# Altium integrated library Atmel AT89S52.IntLib: 16 symbols
Pins are listed as number, name and electrical type; pins without a type are passive.

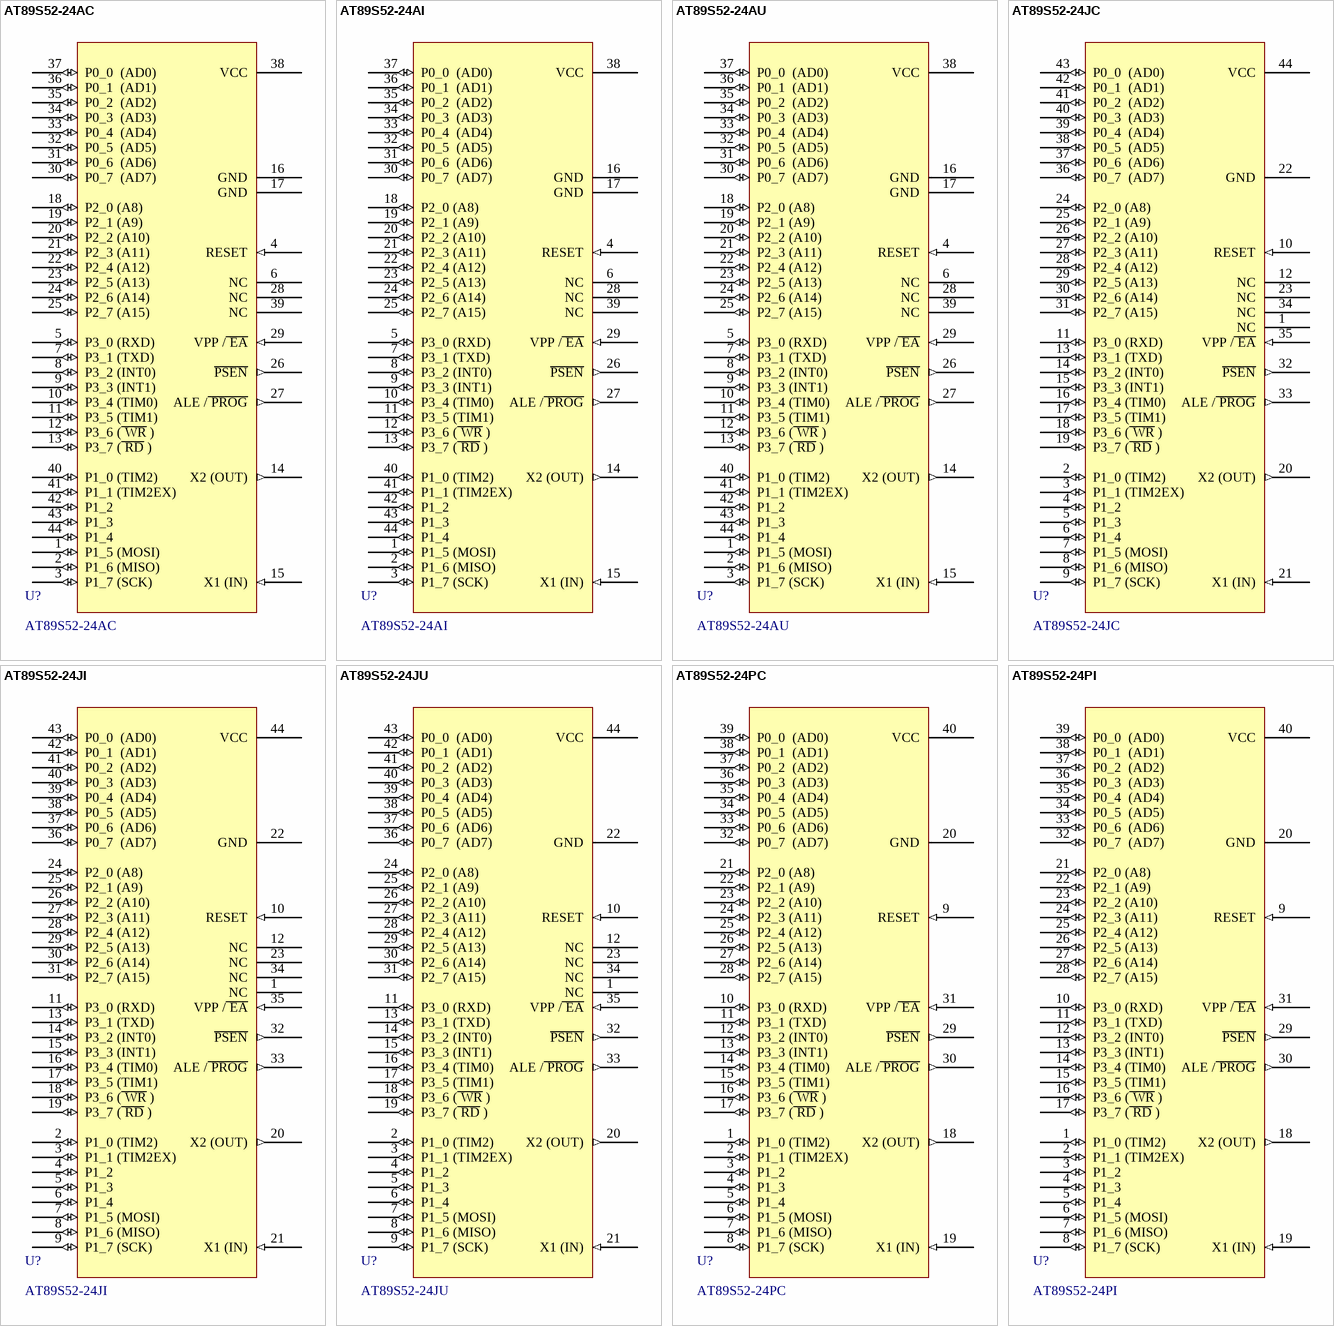
[diagram p0: symbols AT89S52-24AC to AT89S52-24PI]

## AT89S52-24AC
designator U?
Atmel 8 Bit Micro 4.0-5.5V 24MHz 0-70 Deg C 44TQFP (44A) Package; GREEN OPTION: NO; Vendor: ATMEL; PartNr: AT89S52-24AC; Package: 44A 44-lead, Thin Plastic Gull Wing Quad Flatpack (TQFP)
footprint Atmel_44A (44-lead, Thin Plastic Gull Wing Quad Flatpack (TQFP))
pins: 1 P1_5 (MOSI) (io) "PORT 1 BIT 5 OR MOSI", 2 P1_6 (MISO) (io) "PORT 1 BIT 6 OR MISO", 3 P1_7 (SCK) (io) "PORT 1 BIT 7 OR SCK", 4 RESET (in) "RESET IN", 5 P3_0 (RXD) (io) "PORT 3 BIT 0 OR RXD", 6 NC "NOT CONNECTED", 7 P3_1 (TXD) (io) "PORT 3 BIT 1 OR TXD", 8 P3_2 (INT0) (io) "PORT 3 BIT 2 OR INT0", 9 P3_3 (INT1) (io) "PORT 3 BIT 3 OR INT1", 10 P3_4 (TIM0) (io) "PORT 3 BIT 4 OR TIM0", 11 P3_5 (TIM1) (io) "PORT 3 BIT 5 OR TIM1", 12 P3_6 (~{ WR} ) (io) "PORT 3 BIT 6 OR /WR", 13 P3_7 (~{ RD} ) (io) "PORT 3 BIT 7 OR /RD", 14 X2 (OUT) (out) "CLCOK OSC OUT", 15 X1 (IN) (in) "XTAL 1 OR CLK INPUT", 16 GND (power) "GND POWER", 17 GND (power) "GND POWER", 18 P2_0 (A8) (io) "PORT 2 BIT 0 OR A8", 19 P2_1 (A9) (io) "PORT 2 BIT 1 OR A9", 20 P2_2 (A10) (io) "PORT 2 BIT 2 OR A10", 21 P2_3 (A11) (io) "PORT 2 BIT 3 OR A11", 22 P2_4 (A12) (io) "PORT 2 BIT 4 OR A12", 23 P2_5 (A13) (io) "PORT 2 BIT 5 OR A13", 24 P2_6 (A14) (io) "PORT 2 BIT 6 OR A14", 25 P2_7 (A15) (io) "PORT 2 BIT 7 OR A15", 26 ~{PSEN} (out) "PROG STORE ENABLE", 27 ALE /~{ PROG} (out) "ALE / PROG PULSE IN", 28 NC "NOT CONNECTED", 29 VPP /~{ EA} (in) "EX ACCESS ENABLE OR VPP IN", 30 P0_7  (AD7) (io) "PORT 0 BIT 0  (AD7)", 31 P0_6  (AD6) (io) "PORT 0 BIT 0  (AD6)", 32 P0_5  (AD5) (io) "PORT 0 BIT 0  (AD5)", 33 P0_4  (AD4) (io) "PORT 0 BIT 0  (AD4)", 34 P0_3  (AD3) (io) "PORT 0 BIT 0  (AD3)", 35 P0_2  (AD2) (io) "PORT 0 BIT 0  (AD2)", 36 P0_1  (AD1) (io) "PORT 0 BIT 0  (AD1)", 37 P0_0  (AD0) (io) "PORT 0 BIT 0  (AD0)", 38 VCC (power) "VCC 5V NOMINAL", 39 NC "NOT CONNECTED", 40 P1_0 (TIM2) (io) "PORT 1 BIT 0 OR TIM2", 41 P1_1 (TIM2EX) (io) "PORT 1 BIT 1 OR TIM2 EX", 42 P1_2 (io) "PORT 1 BIT 2", 43 P1_3 (io) "PORT 1 BIT 3", 44 P1_4 (io) "PORT 1 BIT 4"

## AT89S52-24AI
designator U?
Atmel 8 Bit Micro 4.0-5.5V 24MHz -40 to +80 Deg C 44TQFP (44A) Package; GREEN OPTION: NO; Vendor: ATMEL; PartNr: AT89S52-24AI; Package: 44A 44-lead, Thin Plastic Gull Wing Quad Flatpack (TQFP)
footprint Atmel_44A (44-lead, Thin Plastic Gull Wing Quad Flatpack (TQFP))
pins: 1 P1_5 (MOSI) (io) "PORT 1 BIT 5 OR MOSI", 2 P1_6 (MISO) (io) "PORT 1 BIT 6 OR MISO", 3 P1_7 (SCK) (io) "PORT 1 BIT 7 OR SCK", 4 RESET (in) "RESET IN", 5 P3_0 (RXD) (io) "PORT 3 BIT 0 OR RXD", 6 NC "NOT CONNECTED", 7 P3_1 (TXD) (io) "PORT 3 BIT 1 OR TXD", 8 P3_2 (INT0) (io) "PORT 3 BIT 2 OR INT0", 9 P3_3 (INT1) (io) "PORT 3 BIT 3 OR INT1", 10 P3_4 (TIM0) (io) "PORT 3 BIT 4 OR TIM0", 11 P3_5 (TIM1) (io) "PORT 3 BIT 5 OR TIM1", 12 P3_6 (~{ WR} ) (io) "PORT 3 BIT 6 OR /WR", 13 P3_7 (~{ RD} ) (io) "PORT 3 BIT 7 OR /RD", 14 X2 (OUT) (out) "CLCOK OSC OUT", 15 X1 (IN) (in) "XTAL 1 OR CLK INPUT", 16 GND (power) "GND POWER", 17 GND (power) "GND POWER", 18 P2_0 (A8) (io) "PORT 2 BIT 0 OR A8", 19 P2_1 (A9) (io) "PORT 2 BIT 1 OR A9", 20 P2_2 (A10) (io) "PORT 2 BIT 2 OR A10", 21 P2_3 (A11) (io) "PORT 2 BIT 3 OR A11", 22 P2_4 (A12) (io) "PORT 2 BIT 4 OR A12", 23 P2_5 (A13) (io) "PORT 2 BIT 5 OR A13", 24 P2_6 (A14) (io) "PORT 2 BIT 6 OR A14", 25 P2_7 (A15) (io) "PORT 2 BIT 7 OR A15", 26 ~{PSEN} (out) "PROG STORE ENABLE", 27 ALE /~{ PROG} (out) "ALE / PROG PULSE IN", 28 NC "NOT CONNECTED", 29 VPP /~{ EA} (in) "EX ACCESS ENABLE OR VPP IN", 30 P0_7  (AD7) (io) "PORT 0 BIT 0  (AD7)", 31 P0_6  (AD6) (io) "PORT 0 BIT 0  (AD6)", 32 P0_5  (AD5) (io) "PORT 0 BIT 0  (AD5)", 33 P0_4  (AD4) (io) "PORT 0 BIT 0  (AD4)", 34 P0_3  (AD3) (io) "PORT 0 BIT 0  (AD3)", 35 P0_2  (AD2) (io) "PORT 0 BIT 0  (AD2)", 36 P0_1  (AD1) (io) "PORT 0 BIT 0  (AD1)", 37 P0_0  (AD0) (io) "PORT 0 BIT 0  (AD0)", 38 VCC (power) "VCC 5V NOMINAL", 39 NC "NOT CONNECTED", 40 P1_0 (TIM2) (io) "PORT 1 BIT 0 OR TIM2", 41 P1_1 (TIM2EX) (io) "PORT 1 BIT 1 OR TIM2 EX", 42 P1_2 (io) "PORT 1 BIT 2", 43 P1_3 (io) "PORT 1 BIT 3", 44 P1_4 (io) "PORT 1 BIT 4"

## AT89S52-24AU
designator U?
Atmel 8 Bit Micro 4.0-5.5V 24MHz -40 to +80 Deg C 44TQFP (44A) Package GREEN OPTION; GREEN OPTION: YES; Vendor: ATMEL; PartNr: AT89S52-24AU; Package: 44A 44-lead, Thin Plastic Gull Wing Quad Flatpack (TQFP)
footprint Atmel_44A (44-lead, Thin Plastic Gull Wing Quad Flatpack (TQFP))
pins: 1 P1_5 (MOSI) (io) "PORT 1 BIT 5 OR MOSI", 2 P1_6 (MISO) (io) "PORT 1 BIT 6 OR MISO", 3 P1_7 (SCK) (io) "PORT 1 BIT 7 OR SCK", 4 RESET (in) "RESET IN", 5 P3_0 (RXD) (io) "PORT 3 BIT 0 OR RXD", 6 NC "NOT CONNECTED", 7 P3_1 (TXD) (io) "PORT 3 BIT 1 OR TXD", 8 P3_2 (INT0) (io) "PORT 3 BIT 2 OR INT0", 9 P3_3 (INT1) (io) "PORT 3 BIT 3 OR INT1", 10 P3_4 (TIM0) (io) "PORT 3 BIT 4 OR TIM0", 11 P3_5 (TIM1) (io) "PORT 3 BIT 5 OR TIM1", 12 P3_6 (~{ WR} ) (io) "PORT 3 BIT 6 OR /WR", 13 P3_7 (~{ RD} ) (io) "PORT 3 BIT 7 OR /RD", 14 X2 (OUT) (out) "CLCOK OSC OUT", 15 X1 (IN) (in) "XTAL 1 OR CLK INPUT", 16 GND (power) "GND POWER", 17 GND (power) "GND POWER", 18 P2_0 (A8) (io) "PORT 2 BIT 0 OR A8", 19 P2_1 (A9) (io) "PORT 2 BIT 1 OR A9", 20 P2_2 (A10) (io) "PORT 2 BIT 2 OR A10", 21 P2_3 (A11) (io) "PORT 2 BIT 3 OR A11", 22 P2_4 (A12) (io) "PORT 2 BIT 4 OR A12", 23 P2_5 (A13) (io) "PORT 2 BIT 5 OR A13", 24 P2_6 (A14) (io) "PORT 2 BIT 6 OR A14", 25 P2_7 (A15) (io) "PORT 2 BIT 7 OR A15", 26 ~{PSEN} (out) "PROG STORE ENABLE", 27 ALE /~{ PROG} (out) "ALE / PROG PULSE IN", 28 NC "NOT CONNECTED", 29 VPP /~{ EA} (in) "EX ACCESS ENABLE OR VPP IN", 30 P0_7  (AD7) (io) "PORT 0 BIT 0  (AD7)", 31 P0_6  (AD6) (io) "PORT 0 BIT 0  (AD6)", 32 P0_5  (AD5) (io) "PORT 0 BIT 0  (AD5)", 33 P0_4  (AD4) (io) "PORT 0 BIT 0  (AD4)", 34 P0_3  (AD3) (io) "PORT 0 BIT 0  (AD3)", 35 P0_2  (AD2) (io) "PORT 0 BIT 0  (AD2)", 36 P0_1  (AD1) (io) "PORT 0 BIT 0  (AD1)", 37 P0_0  (AD0) (io) "PORT 0 BIT 0  (AD0)", 38 VCC (power) "VCC 5V NOMINAL", 39 NC "NOT CONNECTED", 40 P1_0 (TIM2) (io) "PORT 1 BIT 0 OR TIM2", 41 P1_1 (TIM2EX) (io) "PORT 1 BIT 1 OR TIM2 EX", 42 P1_2 (io) "PORT 1 BIT 2", 43 P1_3 (io) "PORT 1 BIT 3", 44 P1_4 (io) "PORT 1 BIT 4"

## AT89S52-24JC
designator U?
Atmel 8 Bit Micro 4.0-5.5V 24MHz 0-70 Deg C 44PLCC (44J) Package; GREEN OPTION: NO; Vendor: ATMEL; PartNr: AT89S52-24JC; Package: 44J 44-lead, Plastic J-leaded Chip Carrier (PLCC)
footprint ATMEL_44J (44-lead, Plastic J-leaded Chip Carrier (PLCC))
pins: 1 NC "NOT CONNECTED", 2 P1_0 (TIM2) (io) "PORT 1 BIT 0 OR TIM2", 3 P1_1 (TIM2EX) (io) "PORT 1 BIT 1 OR TIM2 EX", 4 P1_2 (io) "PORT 1 BIT 2", 5 P1_3 (io) "PORT 1 BIT 3", 6 P1_4 (io) "PORT 1 BIT 4", 7 P1_5 (MOSI) (io) "PORT 1 BIT 5 OR MOSI", 8 P1_6 (MISO) (io) "PORT 1 BIT 6 OR MISO", 9 P1_7 (SCK) (io) "PORT 1 BIT 7 OR SCK", 10 RESET (in) "RESET IN", 11 P3_0 (RXD) (io) "PORT 3 BIT 0 OR RXD", 12 NC "NOT CONNECTED", 13 P3_1 (TXD) (io) "PORT 3 BIT 1 OR TXD", 14 P3_2 (INT0) (io) "PORT 3 BIT 2 OR INT0", 15 P3_3 (INT1) (io) "PORT 3 BIT 3 OR INT1", 16 P3_4 (TIM0) (io) "PORT 3 BIT 4 OR TIM0", 17 P3_5 (TIM1) (io) "PORT 3 BIT 5 OR TIM1", 18 P3_6 (~{ WR} ) (io) "PORT 3 BIT 6 OR /WR", 19 P3_7 (~{ RD} ) (io) "PORT 3 BIT 7 OR /RD", 20 X2 (OUT) (out) "CLCOK OSC OUT", 21 X1 (IN) (in) "XTAL 1 OR CLK INPUT", 22 GND (power) "POWER GND", 23 NC "NOT CONNECTED", 24 P2_0 (A8) (io) "PORT 2 BIT 0 OR A8", 25 P2_1 (A9) (io) "PORT 2 BIT 1 OR A9", 26 P2_2 (A10) (io) "PORT 2 BIT 2 OR A10", 27 P2_3 (A11) (io) "PORT 2 BIT 3 OR A11", 28 P2_4 (A12) (io) "PORT 2 BIT 4 OR A12", 29 P2_5 (A13) (io) "PORT 2 BIT 5 OR A13", 30 P2_6 (A14) (io) "PORT 2 BIT 6 OR A14", 31 P2_7 (A15) (io) "PORT 2 BIT 7 OR A15", 32 ~{PSEN} (out) "PROG STORE ENABLE", 33 ALE /~{ PROG} (out) "ALE / PROG PULSE IN", 34 NC "NOT CONNECTED", 35 VPP /~{ EA} (in) "EX ACCESS ENABLE OR VPP IN", 36 P0_7  (AD7) (io) "PORT 0 BIT 0  (AD7)", 37 P0_6  (AD6) (io) "PORT 0 BIT 0  (AD6)", 38 P0_5  (AD5) (io) "PORT 0 BIT 0  (AD5)", 39 P0_4  (AD4) (io) "PORT 0 BIT 0  (AD4)", 40 P0_3  (AD3) (io) "PORT 0 BIT 0  (AD3)", 41 P0_2  (AD2) (io) "PORT 0 BIT 0  (AD2)", 42 P0_1  (AD1) (io) "PORT 0 BIT 0  (AD1)", 43 P0_0  (AD0) (io) "PORT 0 BIT 0  (AD0)", 44 VCC (power) "VCC 5V NOMINAL"

## AT89S52-24JI
designator U?
Atmel 8 Bit Micro 4.0-5.5V 24MHz -40 to +80 Deg C 44PLCC (44J) Package; PartNr: AT89S52-24JC; GREEN OPTION: NO; Vendor: ATMEL; Package: 44J 44-lead, Plastic J-leaded Chip Carrier (PLCC)
footprint ATMEL_44J (44-lead, Plastic J-leaded Chip Carrier (PLCC))
pins: 1 NC "NOT CONNECTED", 2 P1_0 (TIM2) (io) "PORT 1 BIT 0 OR TIM2", 3 P1_1 (TIM2EX) (io) "PORT 1 BIT 1 OR TIM2 EX", 4 P1_2 (io) "PORT 1 BIT 2", 5 P1_3 (io) "PORT 1 BIT 3", 6 P1_4 (io) "PORT 1 BIT 4", 7 P1_5 (MOSI) (io) "PORT 1 BIT 5 OR MOSI", 8 P1_6 (MISO) (io) "PORT 1 BIT 6 OR MISO", 9 P1_7 (SCK) (io) "PORT 1 BIT 7 OR SCK", 10 RESET (in) "RESET IN", 11 P3_0 (RXD) (io) "PORT 3 BIT 0 OR RXD", 12 NC "NOT CONNECTED", 13 P3_1 (TXD) (io) "PORT 3 BIT 1 OR TXD", 14 P3_2 (INT0) (io) "PORT 3 BIT 2 OR INT0", 15 P3_3 (INT1) (io) "PORT 3 BIT 3 OR INT1", 16 P3_4 (TIM0) (io) "PORT 3 BIT 4 OR TIM0", 17 P3_5 (TIM1) (io) "PORT 3 BIT 5 OR TIM1", 18 P3_6 (~{ WR} ) (io) "PORT 3 BIT 6 OR /WR", 19 P3_7 (~{ RD} ) (io) "PORT 3 BIT 7 OR /RD", 20 X2 (OUT) (out) "CLCOK OSC OUT", 21 X1 (IN) (in) "XTAL 1 OR CLK INPUT", 22 GND (power) "POWER GND", 23 NC "NOT CONNECTED", 24 P2_0 (A8) (io) "PORT 2 BIT 0 OR A8", 25 P2_1 (A9) (io) "PORT 2 BIT 1 OR A9", 26 P2_2 (A10) (io) "PORT 2 BIT 2 OR A10", 27 P2_3 (A11) (io) "PORT 2 BIT 3 OR A11", 28 P2_4 (A12) (io) "PORT 2 BIT 4 OR A12", 29 P2_5 (A13) (io) "PORT 2 BIT 5 OR A13", 30 P2_6 (A14) (io) "PORT 2 BIT 6 OR A14", 31 P2_7 (A15) (io) "PORT 2 BIT 7 OR A15", 32 ~{PSEN} (out) "PROG STORE ENABLE", 33 ALE /~{ PROG} (out) "ALE / PROG PULSE IN", 34 NC "NOT CONNECTED", 35 VPP /~{ EA} (in) "EX ACCESS ENABLE OR VPP IN", 36 P0_7  (AD7) (io) "PORT 0 BIT 0  (AD7)", 37 P0_6  (AD6) (io) "PORT 0 BIT 0  (AD6)", 38 P0_5  (AD5) (io) "PORT 0 BIT 0  (AD5)", 39 P0_4  (AD4) (io) "PORT 0 BIT 0  (AD4)", 40 P0_3  (AD3) (io) "PORT 0 BIT 0  (AD3)", 41 P0_2  (AD2) (io) "PORT 0 BIT 0  (AD2)", 42 P0_1  (AD1) (io) "PORT 0 BIT 0  (AD1)", 43 P0_0  (AD0) (io) "PORT 0 BIT 0  (AD0)", 44 VCC (power) "VCC 5V NOMINAL"

## AT89S52-24JU
designator U?
Atmel 8 Bit Micro 4.0-5.5V 24MHz -40 to +80 Deg C 44PLCC (44J) Package GREEN OPTION; GREEN OPTION: YES; Vendor: ATMEL; PartNr: AT89S52-24JU; Package: 44J 44-lead, Plastic J-leaded Chip Carrier (PLCC)
footprint ATMEL_44J (44-lead, Plastic J-leaded Chip Carrier (PLCC))
pins: 1 NC "NOT CONNECTED", 2 P1_0 (TIM2) (io) "PORT 1 BIT 0 OR TIM2", 3 P1_1 (TIM2EX) (io) "PORT 1 BIT 1 OR TIM2 EX", 4 P1_2 (io) "PORT 1 BIT 2", 5 P1_3 (io) "PORT 1 BIT 3", 6 P1_4 (io) "PORT 1 BIT 4", 7 P1_5 (MOSI) (io) "PORT 1 BIT 5 OR MOSI", 8 P1_6 (MISO) (io) "PORT 1 BIT 6 OR MISO", 9 P1_7 (SCK) (io) "PORT 1 BIT 7 OR SCK", 10 RESET (in) "RESET IN", 11 P3_0 (RXD) (io) "PORT 3 BIT 0 OR RXD", 12 NC "NOT CONNECTED", 13 P3_1 (TXD) (io) "PORT 3 BIT 1 OR TXD", 14 P3_2 (INT0) (io) "PORT 3 BIT 2 OR INT0", 15 P3_3 (INT1) (io) "PORT 3 BIT 3 OR INT1", 16 P3_4 (TIM0) (io) "PORT 3 BIT 4 OR TIM0", 17 P3_5 (TIM1) (io) "PORT 3 BIT 5 OR TIM1", 18 P3_6 (~{ WR} ) (io) "PORT 3 BIT 6 OR /WR", 19 P3_7 (~{ RD} ) (io) "PORT 3 BIT 7 OR /RD", 20 X2 (OUT) (out) "CLCOK OSC OUT", 21 X1 (IN) (in) "XTAL 1 OR CLK INPUT", 22 GND (power) "POWER GND", 23 NC "NOT CONNECTED", 24 P2_0 (A8) (io) "PORT 2 BIT 0 OR A8", 25 P2_1 (A9) (io) "PORT 2 BIT 1 OR A9", 26 P2_2 (A10) (io) "PORT 2 BIT 2 OR A10", 27 P2_3 (A11) (io) "PORT 2 BIT 3 OR A11", 28 P2_4 (A12) (io) "PORT 2 BIT 4 OR A12", 29 P2_5 (A13) (io) "PORT 2 BIT 5 OR A13", 30 P2_6 (A14) (io) "PORT 2 BIT 6 OR A14", 31 P2_7 (A15) (io) "PORT 2 BIT 7 OR A15", 32 ~{PSEN} (out) "PROG STORE ENABLE", 33 ALE /~{ PROG} (out) "ALE / PROG PULSE IN", 34 NC "NOT CONNECTED", 35 VPP /~{ EA} (in) "EX ACCESS ENABLE OR VPP IN", 36 P0_7  (AD7) (io) "PORT 0 BIT 0  (AD7)", 37 P0_6  (AD6) (io) "PORT 0 BIT 0  (AD6)", 38 P0_5  (AD5) (io) "PORT 0 BIT 0  (AD5)", 39 P0_4  (AD4) (io) "PORT 0 BIT 0  (AD4)", 40 P0_3  (AD3) (io) "PORT 0 BIT 0  (AD3)", 41 P0_2  (AD2) (io) "PORT 0 BIT 0  (AD2)", 42 P0_1  (AD1) (io) "PORT 0 BIT 0  (AD1)", 43 P0_0  (AD0) (io) "PORT 0 BIT 0  (AD0)", 44 VCC (power) "VCC 5V NOMINAL"

## AT89S52-24PC
designator U?
Atmel 8 Bit Micro 4.0-5.5V 24MHz 0-70 Deg C 40 PDIP (40P6) Package; GREEN OPTION: NO; Vendor: ATMEL; PartNr: AT89S52-24PC; PackAge: 40P6 40-pin, 0.600" Wide, Plastic Dual Inline Package (PDIP)
footprint ATMEL_40P6 (40-pin, 0.600" Wide, Plastic Dual Inline Package (PDIP))
pins: 1 P1_0 (TIM2) (io) "PORT 1 BIT 0 OR TIM2", 2 P1_1 (TIM2EX) (io) "PORT 1 BIT 1 OR TIM2 EX", 3 P1_2 (io) "PORT 1 BIT 2", 4 P1_3 (io) "PORT 1 BIT 3", 5 P1_4 (io) "PORT 1 BIT 4", 6 P1_5 (MOSI) (io) "PORT 1 BIT 5 OR MOSI", 7 P1_6 (MISO) (io) "PORT 1 BIT 6 OR MISO", 8 P1_7 (SCK) (io) "PORT 1 BIT 7 OR SCK", 9 RESET (in) "RESET IN", 10 P3_0 (RXD) (io) "PORT 3 BIT 0 OR RXD", 11 P3_1 (TXD) (io) "PORT 3 BIT 1 OR TXD", 12 P3_2 (INT0) (io) "PORT 3 BIT 2 OR INT0", 13 P3_3 (INT1) (io) "PORT 3 BIT 3 OR INT1", 14 P3_4 (TIM0) (io) "PORT 3 BIT 4 OR TIM0", 15 P3_5 (TIM1) (io) "PORT 3 BIT 5 OR TIM1", 16 P3_6 (~{ WR} ) (io) "PORT 3 BIT 6 OR /WR", 17 P3_7 (~{ RD} ) (io) "PORT 3 BIT 7 OR /RD", 18 X2 (OUT) (out) "CLCOK OSC OUT", 19 X1 (IN) (in) "XTAL 1 OR CLK INPUT", 20 GND (power) "POWER GND", 21 P2_0 (A8) (io) "PORT 2 BIT 0 OR A8", 22 P2_1 (A9) (io) "PORT 2 BIT 1 OR A9", 23 P2_2 (A10) (io) "PORT 2 BIT 2 OR A10", 24 P2_3 (A11) (io) "PORT 2 BIT 3 OR A11", 25 P2_4 (A12) (io) "PORT 2 BIT 4 OR A12", 26 P2_5 (A13) (io) "PORT 2 BIT 5 OR A13", 27 P2_6 (A14) (io) "PORT 2 BIT 6 OR A14", 28 P2_7 (A15) (io) "PORT 2 BIT 7 OR A15", 29 ~{PSEN} (out) "PROG STORE ENABLE", 30 ALE /~{ PROG} (out) "ALE / PROG PULSE IN", 31 VPP /~{ EA} (in) "EX ACCESS ENABLE OR VPP IN", 32 P0_7  (AD7) (io) "PORT 0 BIT 0  (AD7)", 33 P0_6  (AD6) (io) "PORT 0 BIT 0  (AD6)", 34 P0_5  (AD5) (io) "PORT 0 BIT 0  (AD5)", 35 P0_4  (AD4) (io) "PORT 0 BIT 0  (AD4)", 36 P0_3  (AD3) (io) "PORT 0 BIT 0  (AD3)", 37 P0_2  (AD2) (io) "PORT 0 BIT 0  (AD2)", 38 P0_1  (AD1) (io) "PORT 0 BIT 0  (AD1)", 39 P0_0  (AD0) (io) "PORT 0 BIT 0  (AD0)", 40 VCC (power) "VCC 5V NOMINAL"

## AT89S52-24PI
designator U?
Atmel 8 Bit Micro 4.0-5.5V 24MHz -40 to +80 Deg C 40 PDIP (40P6) Package; GREEN OPTION: NO; Vendor: ATMEL; PartNr: AT89S52-24PI; PackAge: 40P6 40-pin, 0.600" Wide, Plastic Dual Inline Package (PDIP)
footprint ATMEL_40P6 (40-pin, 0.600" Wide, Plastic Dual Inline Package (PDIP))
pins: 1 P1_0 (TIM2) (io) "PORT 1 BIT 0 OR TIM2", 2 P1_1 (TIM2EX) (io) "PORT 1 BIT 1 OR TIM2 EX", 3 P1_2 (io) "PORT 1 BIT 2", 4 P1_3 (io) "PORT 1 BIT 3", 5 P1_4 (io) "PORT 1 BIT 4", 6 P1_5 (MOSI) (io) "PORT 1 BIT 5 OR MOSI", 7 P1_6 (MISO) (io) "PORT 1 BIT 6 OR MISO", 8 P1_7 (SCK) (io) "PORT 1 BIT 7 OR SCK", 9 RESET (in) "RESET IN", 10 P3_0 (RXD) (io) "PORT 3 BIT 0 OR RXD", 11 P3_1 (TXD) (io) "PORT 3 BIT 1 OR TXD", 12 P3_2 (INT0) (io) "PORT 3 BIT 2 OR INT0", 13 P3_3 (INT1) (io) "PORT 3 BIT 3 OR INT1", 14 P3_4 (TIM0) (io) "PORT 3 BIT 4 OR TIM0", 15 P3_5 (TIM1) (io) "PORT 3 BIT 5 OR TIM1", 16 P3_6 (~{ WR} ) (io) "PORT 3 BIT 6 OR /WR", 17 P3_7 (~{ RD} ) (io) "PORT 3 BIT 7 OR /RD", 18 X2 (OUT) (out) "CLCOK OSC OUT", 19 X1 (IN) (in) "XTAL 1 OR CLK INPUT", 20 GND (power) "POWER GND", 21 P2_0 (A8) (io) "PORT 2 BIT 0 OR A8", 22 P2_1 (A9) (io) "PORT 2 BIT 1 OR A9", 23 P2_2 (A10) (io) "PORT 2 BIT 2 OR A10", 24 P2_3 (A11) (io) "PORT 2 BIT 3 OR A11", 25 P2_4 (A12) (io) "PORT 2 BIT 4 OR A12", 26 P2_5 (A13) (io) "PORT 2 BIT 5 OR A13", 27 P2_6 (A14) (io) "PORT 2 BIT 6 OR A14", 28 P2_7 (A15) (io) "PORT 2 BIT 7 OR A15", 29 ~{PSEN} (out) "PROG STORE ENABLE", 30 ALE /~{ PROG} (out) "ALE / PROG PULSE IN", 31 VPP /~{ EA} (in) "EX ACCESS ENABLE OR VPP IN", 32 P0_7  (AD7) (io) "PORT 0 BIT 0  (AD7)", 33 P0_6  (AD6) (io) "PORT 0 BIT 0  (AD6)", 34 P0_5  (AD5) (io) "PORT 0 BIT 0  (AD5)", 35 P0_4  (AD4) (io) "PORT 0 BIT 0  (AD4)", 36 P0_3  (AD3) (io) "PORT 0 BIT 0  (AD3)", 37 P0_2  (AD2) (io) "PORT 0 BIT 0  (AD2)", 38 P0_1  (AD1) (io) "PORT 0 BIT 0  (AD1)", 39 P0_0  (AD0) (io) "PORT 0 BIT 0  (AD0)", 40 VCC (power) "VCC 5V NOMINAL"

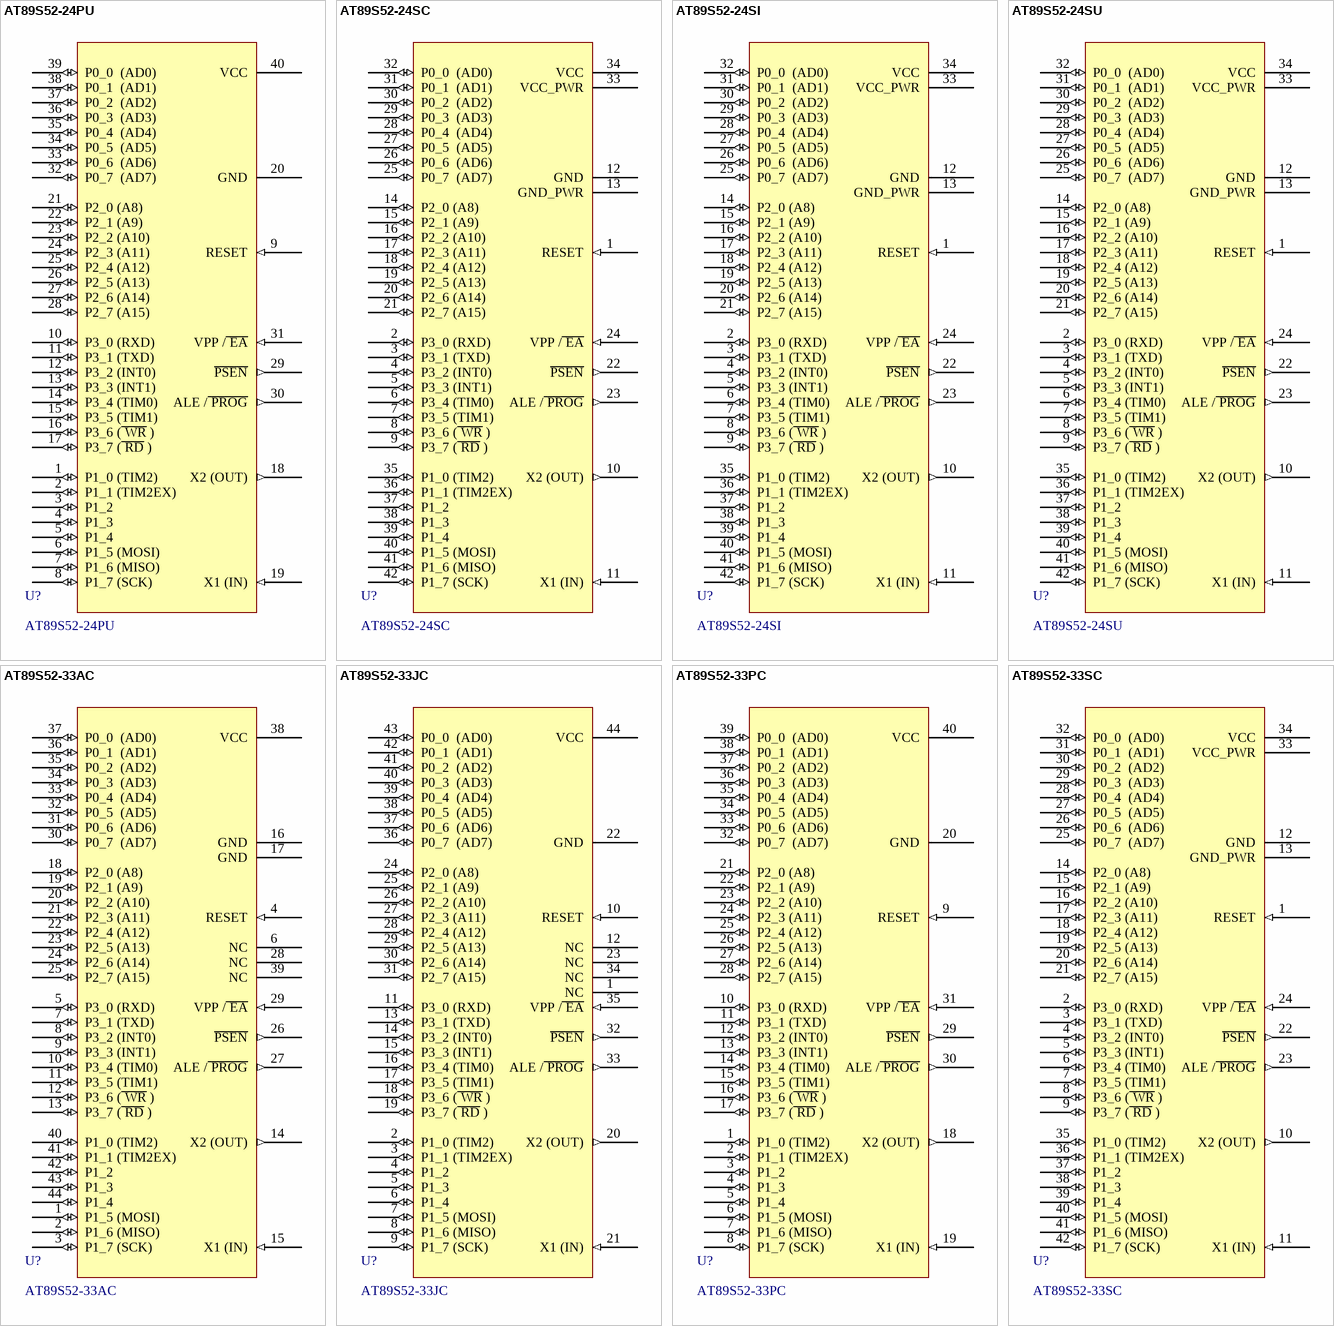
[diagram p1: symbols AT89S52-24PU to AT89S52-33SC]

## AT89S52-24PU
designator U?
Atmel 8 Bit Micro 4.0-5.5V 24MHz -40 to +80 Deg C 40 PDIP (40P6) Package GREEN OPTION; GREEN OPTION: YES; Vendor: ATMEL; PartNr: AT89S52-24PU; PackAge: 40P6 40-pin, 0.600" Wide, Plastic Dual Inline Package (PDIP)
footprint ATMEL_40P6 (40-pin, 0.600" Wide, Plastic Dual Inline Package (PDIP))
pins: 1 P1_0 (TIM2) (io) "PORT 1 BIT 0 OR TIM2", 2 P1_1 (TIM2EX) (io) "PORT 1 BIT 1 OR TIM2 EX", 3 P1_2 (io) "PORT 1 BIT 2", 4 P1_3 (io) "PORT 1 BIT 3", 5 P1_4 (io) "PORT 1 BIT 4", 6 P1_5 (MOSI) (io) "PORT 1 BIT 5 OR MOSI", 7 P1_6 (MISO) (io) "PORT 1 BIT 6 OR MISO", 8 P1_7 (SCK) (io) "PORT 1 BIT 7 OR SCK", 9 RESET (in) "RESET IN", 10 P3_0 (RXD) (io) "PORT 3 BIT 0 OR RXD", 11 P3_1 (TXD) (io) "PORT 3 BIT 1 OR TXD", 12 P3_2 (INT0) (io) "PORT 3 BIT 2 OR INT0", 13 P3_3 (INT1) (io) "PORT 3 BIT 3 OR INT1", 14 P3_4 (TIM0) (io) "PORT 3 BIT 4 OR TIM0", 15 P3_5 (TIM1) (io) "PORT 3 BIT 5 OR TIM1", 16 P3_6 (~{ WR} ) (io) "PORT 3 BIT 6 OR /WR", 17 P3_7 (~{ RD} ) (io) "PORT 3 BIT 7 OR /RD", 18 X2 (OUT) (out) "CLCOK OSC OUT", 19 X1 (IN) (in) "XTAL 1 OR CLK INPUT", 20 GND (power) "POWER GND", 21 P2_0 (A8) (io) "PORT 2 BIT 0 OR A8", 22 P2_1 (A9) (io) "PORT 2 BIT 1 OR A9", 23 P2_2 (A10) (io) "PORT 2 BIT 2 OR A10", 24 P2_3 (A11) (io) "PORT 2 BIT 3 OR A11", 25 P2_4 (A12) (io) "PORT 2 BIT 4 OR A12", 26 P2_5 (A13) (io) "PORT 2 BIT 5 OR A13", 27 P2_6 (A14) (io) "PORT 2 BIT 6 OR A14", 28 P2_7 (A15) (io) "PORT 2 BIT 7 OR A15", 29 ~{PSEN} (out) "PROG STORE ENABLE", 30 ALE /~{ PROG} (out) "ALE / PROG PULSE IN", 31 VPP /~{ EA} (in) "EX ACCESS ENABLE OR VPP IN", 32 P0_7  (AD7) (io) "PORT 0 BIT 0  (AD7)", 33 P0_6  (AD6) (io) "PORT 0 BIT 0  (AD6)", 34 P0_5  (AD5) (io) "PORT 0 BIT 0  (AD5)", 35 P0_4  (AD4) (io) "PORT 0 BIT 0  (AD4)", 36 P0_3  (AD3) (io) "PORT 0 BIT 0  (AD3)", 37 P0_2  (AD2) (io) "PORT 0 BIT 0  (AD2)", 38 P0_1  (AD1) (io) "PORT 0 BIT 0  (AD1)", 39 P0_0  (AD0) (io) "PORT 0 BIT 0  (AD0)", 40 VCC (power) "VCC 5V NOMINAL"

## AT89S52-24SC
designator U?
Atmel 8 Bit Micro 4.0-5.5V 24MHz 0-70 Deg C 42 PDIP (42PS6) Package; GREEN OPTION: NO; Vendor: ATMEL; PartNr: AT89S52-24SC; Package: 42PS6 42-pin, 0.600" Wide, Plastic Dual Inline Package (PDIP)
footprint ATMEL_42PS6 (42-pin, 0.600" Wide, Plastic Dual Inline Package (PDIP))
pins: 1 RESET (in) "RESET IN", 2 P3_0 (RXD) (io) "PORT 3 BIT 0 OR RXD", 3 P3_1 (TXD) (io) "PORT 3 BIT 1 OR TXD", 4 P3_2 (INT0) (io) "PORT 3 BIT 2 OR INT0", 5 P3_3 (INT1) (io) "PORT 3 BIT 3 OR INT1", 6 P3_4 (TIM0) (io) "PORT 3 BIT 4 OR TIM0", 7 P3_5 (TIM1) (io) "PORT 3 BIT 5 OR TIM1", 8 P3_6 (~{ WR} ) (io) "PORT 3 BIT 6 OR /WR", 9 P3_7 (~{ RD} ) (io) "PORT 3 BIT 7 OR /RD", 10 X2 (OUT) (out) "CLCOK OSC OUT", 11 X1 (IN) (in) "XTAL 1 OR CLK INPUT", 12 GND (power) "POWER GND", 13 GND_PWR (power) "POWER GND", 14 P2_0 (A8) (io) "PORT 2 BIT 0 OR A8", 15 P2_1 (A9) (io) "PORT 2 BIT 1 OR A9", 16 P2_2 (A10) (io) "PORT 2 BIT 2 OR A10", 17 P2_3 (A11) (io) "PORT 2 BIT 3 OR A11", 18 P2_4 (A12) (io) "PORT 2 BIT 4 OR A12", 19 P2_5 (A13) (io) "PORT 2 BIT 5 OR A13", 20 P2_6 (A14) (io) "PORT 2 BIT 6 OR A14", 21 P2_7 (A15) (io) "PORT 2 BIT 7 OR A15", 22 ~{PSEN} (out) "PROG STORE ENABLE", 23 ALE /~{ PROG} (out) "ALE / PROG PULSE IN", 24 VPP /~{ EA} (in) "EX ACCESS ENABLE OR VPP IN", 25 P0_7  (AD7) (io) "PORT 0 BIT 0  (AD7)", 26 P0_6  (AD6) (io) "PORT 0 BIT 0  (AD6)", 27 P0_5  (AD5) (io) "PORT 0 BIT 0  (AD5)", 28 P0_4  (AD4) (io) "PORT 0 BIT 0  (AD4)", 29 P0_3  (AD3) (io) "PORT 0 BIT 0  (AD3)", 30 P0_2  (AD2) (io) "PORT 0 BIT 0  (AD2)", 31 P0_1  (AD1) (io) "PORT 0 BIT 0  (AD1)", 32 P0_0  (AD0) (io) "PORT 0 BIT 0  (AD0)", 33 VCC_PWR (power) "POWER VCC", 34 VCC (power) "VCC 5V NOMINAL", 35 P1_0 (TIM2) (io) "PORT 1 BIT 0 OR TIM2", 36 P1_1 (TIM2EX) (io) "PORT 1 BIT 1 OR TIM2 EX", 37 P1_2 (io) "PORT 1 BIT 2", 38 P1_3 (io) "PORT 1 BIT 3", 39 P1_4 (io) "PORT 1 BIT 4", 40 P1_5 (MOSI) (io) "PORT 1 BIT 5 OR MOSI", 41 P1_6 (MISO) (io) "PORT 1 BIT 6 OR MISO", 42 P1_7 (SCK) (io) "PORT 1 BIT 7 OR SCK"

## AT89S52-24SI
designator U?
Atmel 8 Bit Micro 4.0-5.5V 24MHz -40 to +80 Deg C 42 PDIP (42PS6) Package; GREEN OPTION: NO; Vendor: ATMEL; PartNr: AT89S52-24SI; Package: 42PS6 42-pin, 0.600" Wide, Plastic Dual Inline Package (PDIP)
footprint ATMEL_42PS6 (42-pin, 0.600" Wide, Plastic Dual Inline Package (PDIP))
pins: 1 RESET (in) "RESET IN", 2 P3_0 (RXD) (io) "PORT 3 BIT 0 OR RXD", 3 P3_1 (TXD) (io) "PORT 3 BIT 1 OR TXD", 4 P3_2 (INT0) (io) "PORT 3 BIT 2 OR INT0", 5 P3_3 (INT1) (io) "PORT 3 BIT 3 OR INT1", 6 P3_4 (TIM0) (io) "PORT 3 BIT 4 OR TIM0", 7 P3_5 (TIM1) (io) "PORT 3 BIT 5 OR TIM1", 8 P3_6 (~{ WR} ) (io) "PORT 3 BIT 6 OR /WR", 9 P3_7 (~{ RD} ) (io) "PORT 3 BIT 7 OR /RD", 10 X2 (OUT) (out) "CLCOK OSC OUT", 11 X1 (IN) (in) "XTAL 1 OR CLK INPUT", 12 GND (power) "POWER GND", 13 GND_PWR (power) "POWER GND", 14 P2_0 (A8) (io) "PORT 2 BIT 0 OR A8", 15 P2_1 (A9) (io) "PORT 2 BIT 1 OR A9", 16 P2_2 (A10) (io) "PORT 2 BIT 2 OR A10", 17 P2_3 (A11) (io) "PORT 2 BIT 3 OR A11", 18 P2_4 (A12) (io) "PORT 2 BIT 4 OR A12", 19 P2_5 (A13) (io) "PORT 2 BIT 5 OR A13", 20 P2_6 (A14) (io) "PORT 2 BIT 6 OR A14", 21 P2_7 (A15) (io) "PORT 2 BIT 7 OR A15", 22 ~{PSEN} (out) "PROG STORE ENABLE", 23 ALE /~{ PROG} (out) "ALE / PROG PULSE IN", 24 VPP /~{ EA} (in) "EX ACCESS ENABLE OR VPP IN", 25 P0_7  (AD7) (io) "PORT 0 BIT 0  (AD7)", 26 P0_6  (AD6) (io) "PORT 0 BIT 0  (AD6)", 27 P0_5  (AD5) (io) "PORT 0 BIT 0  (AD5)", 28 P0_4  (AD4) (io) "PORT 0 BIT 0  (AD4)", 29 P0_3  (AD3) (io) "PORT 0 BIT 0  (AD3)", 30 P0_2  (AD2) (io) "PORT 0 BIT 0  (AD2)", 31 P0_1  (AD1) (io) "PORT 0 BIT 0  (AD1)", 32 P0_0  (AD0) (io) "PORT 0 BIT 0  (AD0)", 33 VCC_PWR (power) "POWER VCC", 34 VCC (power) "VCC 5V NOMINAL", 35 P1_0 (TIM2) (io) "PORT 1 BIT 0 OR TIM2", 36 P1_1 (TIM2EX) (io) "PORT 1 BIT 1 OR TIM2 EX", 37 P1_2 (io) "PORT 1 BIT 2", 38 P1_3 (io) "PORT 1 BIT 3", 39 P1_4 (io) "PORT 1 BIT 4", 40 P1_5 (MOSI) (io) "PORT 1 BIT 5 OR MOSI", 41 P1_6 (MISO) (io) "PORT 1 BIT 6 OR MISO", 42 P1_7 (SCK) (io) "PORT 1 BIT 7 OR SCK"

## AT89S52-24SU
designator U?
Atmel 8 Bit Micro 4.0-5.5V 24MHz -40 to +80 Deg C 42 PDIP (42PS6) Package GREEN OPTION; GREEN OPTION: YES; Vendor: ATMEL; PartNr: AT89S52-24SU; Package: 42PS6 42-pin, 0.600" Wide, Plastic Dual Inline Package (PDIP)
footprint ATMEL_42PS6 (42-pin, 0.600" Wide, Plastic Dual Inline Package (PDIP))
pins: 1 RESET (in) "RESET IN", 2 P3_0 (RXD) (io) "PORT 3 BIT 0 OR RXD", 3 P3_1 (TXD) (io) "PORT 3 BIT 1 OR TXD", 4 P3_2 (INT0) (io) "PORT 3 BIT 2 OR INT0", 5 P3_3 (INT1) (io) "PORT 3 BIT 3 OR INT1", 6 P3_4 (TIM0) (io) "PORT 3 BIT 4 OR TIM0", 7 P3_5 (TIM1) (io) "PORT 3 BIT 5 OR TIM1", 8 P3_6 (~{ WR} ) (io) "PORT 3 BIT 6 OR /WR", 9 P3_7 (~{ RD} ) (io) "PORT 3 BIT 7 OR /RD", 10 X2 (OUT) (out) "CLCOK OSC OUT", 11 X1 (IN) (in) "XTAL 1 OR CLK INPUT", 12 GND (power) "POWER GND", 13 GND_PWR (power) "POWER GND", 14 P2_0 (A8) (io) "PORT 2 BIT 0 OR A8", 15 P2_1 (A9) (io) "PORT 2 BIT 1 OR A9", 16 P2_2 (A10) (io) "PORT 2 BIT 2 OR A10", 17 P2_3 (A11) (io) "PORT 2 BIT 3 OR A11", 18 P2_4 (A12) (io) "PORT 2 BIT 4 OR A12", 19 P2_5 (A13) (io) "PORT 2 BIT 5 OR A13", 20 P2_6 (A14) (io) "PORT 2 BIT 6 OR A14", 21 P2_7 (A15) (io) "PORT 2 BIT 7 OR A15", 22 ~{PSEN} (out) "PROG STORE ENABLE", 23 ALE /~{ PROG} (out) "ALE / PROG PULSE IN", 24 VPP /~{ EA} (in) "EX ACCESS ENABLE OR VPP IN", 25 P0_7  (AD7) (io) "PORT 0 BIT 0  (AD7)", 26 P0_6  (AD6) (io) "PORT 0 BIT 0  (AD6)", 27 P0_5  (AD5) (io) "PORT 0 BIT 0  (AD5)", 28 P0_4  (AD4) (io) "PORT 0 BIT 0  (AD4)", 29 P0_3  (AD3) (io) "PORT 0 BIT 0  (AD3)", 30 P0_2  (AD2) (io) "PORT 0 BIT 0  (AD2)", 31 P0_1  (AD1) (io) "PORT 0 BIT 0  (AD1)", 32 P0_0  (AD0) (io) "PORT 0 BIT 0  (AD0)", 33 VCC_PWR (power) "POWER VCC", 34 VCC (power) "VCC 5V NOMINAL", 35 P1_0 (TIM2) (io) "PORT 1 BIT 0 OR TIM2", 36 P1_1 (TIM2EX) (io) "PORT 1 BIT 1 OR TIM2 EX", 37 P1_2 (io) "PORT 1 BIT 2", 38 P1_3 (io) "PORT 1 BIT 3", 39 P1_4 (io) "PORT 1 BIT 4", 40 P1_5 (MOSI) (io) "PORT 1 BIT 5 OR MOSI", 41 P1_6 (MISO) (io) "PORT 1 BIT 6 OR MISO", 42 P1_7 (SCK) (io) "PORT 1 BIT 7 OR SCK"

## AT89S52-33AC
designator U?
Atmel 8 Bit Micro 4.0-5.5V 33MHz 0-70 Deg C 44TQFP (44A) Package; GREEN OPTION: NO; Vendor: ATMEL; PartNr: AT89S52-33AC; Package: 44A 44-lead, Thin Plastic Gull Wing Quad Flatpack (TQFP)
footprint ATMEL_44A (44-lead, Thin Plastic Gull Wing Quad Flatpack (TQFP))
pins: 1 P1_5 (MOSI) (io) "PORT 1 BIT 5 OR MOSI", 2 P1_6 (MISO) (io) "PORT 1 BIT 6 OR MISO", 3 P1_7 (SCK) (io) "PORT 1 BIT 7 OR SCK", 4 RESET (in) "RESET IN", 5 P3_0 (RXD) (io) "PORT 3 BIT 0 OR RXD", 6 NC "NOT CONNECTED", 7 P3_1 (TXD) (io) "PORT 3 BIT 1 OR TXD", 8 P3_2 (INT0) (io) "PORT 3 BIT 2 OR INT0", 9 P3_3 (INT1) (io) "PORT 3 BIT 3 OR INT1", 10 P3_4 (TIM0) (io) "PORT 3 BIT 4 OR TIM0", 11 P3_5 (TIM1) (io) "PORT 3 BIT 5 OR TIM1", 12 P3_6 (~{ WR} ) (io) "PORT 3 BIT 6 OR /WR", 13 P3_7 (~{ RD} ) (io) "PORT 3 BIT 7 OR /RD", 14 X2 (OUT) (out) "CLCOK OSC OUT", 15 X1 (IN) (in) "XTAL 1 OR CLK INPUT", 16 GND (power) "GND POWER", 17 GND (power) "GND POWER", 18 P2_0 (A8) (io) "PORT 2 BIT 0 OR A8", 19 P2_1 (A9) (io) "PORT 2 BIT 1 OR A9", 20 P2_2 (A10) (io) "PORT 2 BIT 2 OR A10", 21 P2_3 (A11) (io) "PORT 2 BIT 3 OR A11", 22 P2_4 (A12) (io) "PORT 2 BIT 4 OR A12", 23 P2_5 (A13) (io) "PORT 2 BIT 5 OR A13", 24 P2_6 (A14) (io) "PORT 2 BIT 6 OR A14", 25 P2_7 (A15) (io) "PORT 2 BIT 7 OR A15", 26 ~{PSEN} (out) "PROG STORE ENABLE", 27 ALE /~{ PROG} (out) "ALE / PROG PULSE IN", 28 NC "NOT CONNECTED", 29 VPP /~{ EA} (in) "EX ACCESS ENABLE OR VPP IN", 30 P0_7  (AD7) (io) "PORT 0 BIT 0  (AD7)", 31 P0_6  (AD6) (io) "PORT 0 BIT 0  (AD6)", 32 P0_5  (AD5) (io) "PORT 0 BIT 0  (AD5)", 33 P0_4  (AD4) (io) "PORT 0 BIT 0  (AD4)", 34 P0_3  (AD3) (io) "PORT 0 BIT 0  (AD3)", 35 P0_2  (AD2) (io) "PORT 0 BIT 0  (AD2)", 36 P0_1  (AD1) (io) "PORT 0 BIT 0  (AD1)", 37 P0_0  (AD0) (io) "PORT 0 BIT 0  (AD0)", 38 VCC (power) "VCC 5V NOMINAL", 39 NC "NOT CONNECTED", 40 P1_0 (TIM2) (io) "PORT 1 BIT 0 OR TIM2", 41 P1_1 (TIM2EX) (io) "PORT 1 BIT 1 OR TIM2 EX", 42 P1_2 (io) "PORT 1 BIT 2", 43 P1_3 (io) "PORT 1 BIT 3", 44 P1_4 (io) "PORT 1 BIT 4"

## AT89S52-33JC
designator U?
Atmel 8 Bit Micro 4.0-5.5V 33MHz 0-70 Deg C 44PLCC (44J) Package; GREEN OPTION: NO; Vendor: ATMEL; PartNr: AT89S52-33JC; Package: 44J 44-lead, Plastic J-leaded Chip Carrier (PLCC)
footprint ATMEL_44J (44-lead, Plastic J-leaded Chip Carrier (PLCC))
pins: 1 NC "NOT CONNECTED", 2 P1_0 (TIM2) (io) "PORT 1 BIT 0 OR TIM2", 3 P1_1 (TIM2EX) (io) "PORT 1 BIT 1 OR TIM2 EX", 4 P1_2 (io) "PORT 1 BIT 2", 5 P1_3 (io) "PORT 1 BIT 3", 6 P1_4 (io) "PORT 1 BIT 4", 7 P1_5 (MOSI) (io) "PORT 1 BIT 5 OR MOSI", 8 P1_6 (MISO) (io) "PORT 1 BIT 6 OR MISO", 9 P1_7 (SCK) (io) "PORT 1 BIT 7 OR SCK", 10 RESET (in) "RESET IN", 11 P3_0 (RXD) (io) "PORT 3 BIT 0 OR RXD", 12 NC "NOT CONNECTED", 13 P3_1 (TXD) (io) "PORT 3 BIT 1 OR TXD", 14 P3_2 (INT0) (io) "PORT 3 BIT 2 OR INT0", 15 P3_3 (INT1) (io) "PORT 3 BIT 3 OR INT1", 16 P3_4 (TIM0) (io) "PORT 3 BIT 4 OR TIM0", 17 P3_5 (TIM1) (io) "PORT 3 BIT 5 OR TIM1", 18 P3_6 (~{ WR} ) (io) "PORT 3 BIT 6 OR /WR", 19 P3_7 (~{ RD} ) (io) "PORT 3 BIT 7 OR /RD", 20 X2 (OUT) (out) "CLCOK OSC OUT", 21 X1 (IN) (in) "XTAL 1 OR CLK INPUT", 22 GND (power) "POWER GND", 23 NC "NOT CONNECTED", 24 P2_0 (A8) (io) "PORT 2 BIT 0 OR A8", 25 P2_1 (A9) (io) "PORT 2 BIT 1 OR A9", 26 P2_2 (A10) (io) "PORT 2 BIT 2 OR A10", 27 P2_3 (A11) (io) "PORT 2 BIT 3 OR A11", 28 P2_4 (A12) (io) "PORT 2 BIT 4 OR A12", 29 P2_5 (A13) (io) "PORT 2 BIT 5 OR A13", 30 P2_6 (A14) (io) "PORT 2 BIT 6 OR A14", 31 P2_7 (A15) (io) "PORT 2 BIT 7 OR A15", 32 ~{PSEN} (out) "PROG STORE ENABLE", 33 ALE /~{ PROG} (out) "ALE / PROG PULSE IN", 34 NC "NOT CONNECTED", 35 VPP /~{ EA} (in) "EX ACCESS ENABLE OR VPP IN", 36 P0_7  (AD7) (io) "PORT 0 BIT 0  (AD7)", 37 P0_6  (AD6) (io) "PORT 0 BIT 0  (AD6)", 38 P0_5  (AD5) (io) "PORT 0 BIT 0  (AD5)", 39 P0_4  (AD4) (io) "PORT 0 BIT 0  (AD4)", 40 P0_3  (AD3) (io) "PORT 0 BIT 0  (AD3)", 41 P0_2  (AD2) (io) "PORT 0 BIT 0  (AD2)", 42 P0_1  (AD1) (io) "PORT 0 BIT 0  (AD1)", 43 P0_0  (AD0) (io) "PORT 0 BIT 0  (AD0)", 44 VCC (power) "VCC 5V NOMINAL"

## AT89S52-33PC
designator U?
Atmel 8 Bit Micro 4.0-5.5V 33MHz 0-70 Deg C 40 PDIP (40P6) Package; GREEN OPTION: NO; Vendor: ATMEL; PartNr: AT89S52-33PC; PackAge: 40P6 40-pin, 0.600" Wide, Plastic Dual Inline Package (PDIP)
footprint ATMEL_40P6 (40-pin, 0.600" Wide, Plastic Dual Inline Package (PDIP))
pins: 1 P1_0 (TIM2) (io) "PORT 1 BIT 0 OR TIM2", 2 P1_1 (TIM2EX) (io) "PORT 1 BIT 1 OR TIM2 EX", 3 P1_2 (io) "PORT 1 BIT 2", 4 P1_3 (io) "PORT 1 BIT 3", 5 P1_4 (io) "PORT 1 BIT 4", 6 P1_5 (MOSI) (io) "PORT 1 BIT 5 OR MOSI", 7 P1_6 (MISO) (io) "PORT 1 BIT 6 OR MISO", 8 P1_7 (SCK) (io) "PORT 1 BIT 7 OR SCK", 9 RESET (in) "RESET IN", 10 P3_0 (RXD) (io) "PORT 3 BIT 0 OR RXD", 11 P3_1 (TXD) (io) "PORT 3 BIT 1 OR TXD", 12 P3_2 (INT0) (io) "PORT 3 BIT 2 OR INT0", 13 P3_3 (INT1) (io) "PORT 3 BIT 3 OR INT1", 14 P3_4 (TIM0) (io) "PORT 3 BIT 4 OR TIM0", 15 P3_5 (TIM1) (io) "PORT 3 BIT 5 OR TIM1", 16 P3_6 (~{ WR} ) (io) "PORT 3 BIT 6 OR /WR", 17 P3_7 (~{ RD} ) (io) "PORT 3 BIT 7 OR /RD", 18 X2 (OUT) (out) "CLCOK OSC OUT", 19 X1 (IN) (in) "XTAL 1 OR CLK INPUT", 20 GND (power) "POWER GND", 21 P2_0 (A8) (io) "PORT 2 BIT 0 OR A8", 22 P2_1 (A9) (io) "PORT 2 BIT 1 OR A9", 23 P2_2 (A10) (io) "PORT 2 BIT 2 OR A10", 24 P2_3 (A11) (io) "PORT 2 BIT 3 OR A11", 25 P2_4 (A12) (io) "PORT 2 BIT 4 OR A12", 26 P2_5 (A13) (io) "PORT 2 BIT 5 OR A13", 27 P2_6 (A14) (io) "PORT 2 BIT 6 OR A14", 28 P2_7 (A15) (io) "PORT 2 BIT 7 OR A15", 29 ~{PSEN} (out) "PROG STORE ENABLE", 30 ALE /~{ PROG} (out) "ALE / PROG PULSE IN", 31 VPP /~{ EA} (in) "EX ACCESS ENABLE OR VPP IN", 32 P0_7  (AD7) (io) "PORT 0 BIT 0  (AD7)", 33 P0_6  (AD6) (io) "PORT 0 BIT 0  (AD6)", 34 P0_5  (AD5) (io) "PORT 0 BIT 0  (AD5)", 35 P0_4  (AD4) (io) "PORT 0 BIT 0  (AD4)", 36 P0_3  (AD3) (io) "PORT 0 BIT 0  (AD3)", 37 P0_2  (AD2) (io) "PORT 0 BIT 0  (AD2)", 38 P0_1  (AD1) (io) "PORT 0 BIT 0  (AD1)", 39 P0_0  (AD0) (io) "PORT 0 BIT 0  (AD0)", 40 VCC (power) "VCC 5V NOMINAL"

## AT89S52-33SC
designator U?
Atmel 8 Bit Micro 4.0-5.5V 33MHz 0-70 Deg C 42 PDIP (42PS6) Package; GREEN OPTION: NO; Vendor: ATMEL; PartNr: AT89S52-33SC; Package: 42PS6 42-pin, 0.600" Wide, Plastic Dual Inline Package (PDIP)
footprint ATMEL_42PS6 (42-pin, 0.600" Wide, Plastic Dual Inline Package (PDIP))
pins: 1 RESET (in) "RESET IN", 2 P3_0 (RXD) (io) "PORT 3 BIT 0 OR RXD", 3 P3_1 (TXD) (io) "PORT 3 BIT 1 OR TXD", 4 P3_2 (INT0) (io) "PORT 3 BIT 2 OR INT0", 5 P3_3 (INT1) (io) "PORT 3 BIT 3 OR INT1", 6 P3_4 (TIM0) (io) "PORT 3 BIT 4 OR TIM0", 7 P3_5 (TIM1) (io) "PORT 3 BIT 5 OR TIM1", 8 P3_6 (~{ WR} ) (io) "PORT 3 BIT 6 OR /WR", 9 P3_7 (~{ RD} ) (io) "PORT 3 BIT 7 OR /RD", 10 X2 (OUT) (out) "CLCOK OSC OUT", 11 X1 (IN) (in) "XTAL 1 OR CLK INPUT", 12 GND (power) "POWER GND", 13 GND_PWR (power) "POWER GND", 14 P2_0 (A8) (io) "PORT 2 BIT 0 OR A8", 15 P2_1 (A9) (io) "PORT 2 BIT 1 OR A9", 16 P2_2 (A10) (io) "PORT 2 BIT 2 OR A10", 17 P2_3 (A11) (io) "PORT 2 BIT 3 OR A11", 18 P2_4 (A12) (io) "PORT 2 BIT 4 OR A12", 19 P2_5 (A13) (io) "PORT 2 BIT 5 OR A13", 20 P2_6 (A14) (io) "PORT 2 BIT 6 OR A14", 21 P2_7 (A15) (io) "PORT 2 BIT 7 OR A15", 22 ~{PSEN} (out) "PROG STORE ENABLE", 23 ALE /~{ PROG} (out) "ALE / PROG PULSE IN", 24 VPP /~{ EA} (in) "EX ACCESS ENABLE OR VPP IN", 25 P0_7  (AD7) (io) "PORT 0 BIT 0  (AD7)", 26 P0_6  (AD6) (io) "PORT 0 BIT 0  (AD6)", 27 P0_5  (AD5) (io) "PORT 0 BIT 0  (AD5)", 28 P0_4  (AD4) (io) "PORT 0 BIT 0  (AD4)", 29 P0_3  (AD3) (io) "PORT 0 BIT 0  (AD3)", 30 P0_2  (AD2) (io) "PORT 0 BIT 0  (AD2)", 31 P0_1  (AD1) (io) "PORT 0 BIT 0  (AD1)", 32 P0_0  (AD0) (io) "PORT 0 BIT 0  (AD0)", 33 VCC_PWR (power) "POWER VCC", 34 VCC (power) "VCC 5V NOMINAL", 35 P1_0 (TIM2) (io) "PORT 1 BIT 0 OR TIM2", 36 P1_1 (TIM2EX) (io) "PORT 1 BIT 1 OR TIM2 EX", 37 P1_2 (io) "PORT 1 BIT 2", 38 P1_3 (io) "PORT 1 BIT 3", 39 P1_4 (io) "PORT 1 BIT 4", 40 P1_5 (MOSI) (io) "PORT 1 BIT 5 OR MOSI", 41 P1_6 (MISO) (io) "PORT 1 BIT 6 OR MISO", 42 P1_7 (SCK) (io) "PORT 1 BIT 7 OR SCK"